# Altium footprint library TPS63060.PcbLib: 1 footprints
Each footprint in its own frame and in the unit in brackets; x right, y up, seen from the top. Pads: shape width x height; smd on the part's side, far side on the other; paste and mask are expansions set on the pad; w line width, h text height; cw(c..) or ccw(c..) is an arc to the next point about the centre after c.
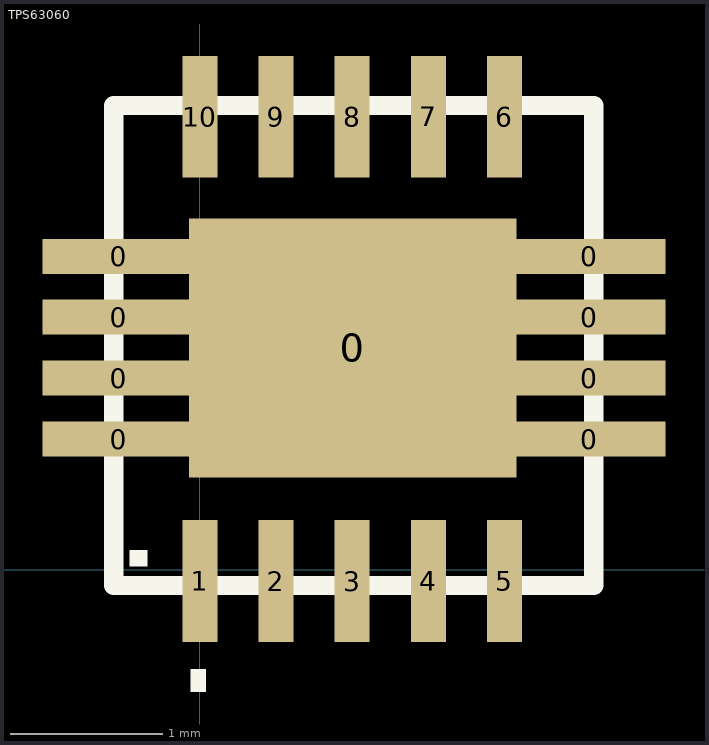
[diagram p0: the footprint, top view; thin cyan lines are the x and y axes]

## TPS63060 [mm]
pads (19):
  rect 1x0.23 smd mask+0.07: 0(-0.533,0.859) 0(-0.533,1.259) 0(-0.533,1.659) 0(-0.533,2.057) 0(2.558,0.859) 0(2.558,1.259) 0(2.558,1.659) 0(2.558,2.057)
  rect 2.15x1.7 smd mask+0.07: 0(1.003,1.458)
  rect 0.23x0.8 smd mask+0.07: 1(0,-0.074) 2(0.5,-0.074) 3(1,-0.074) 4(1.5,-0.074) 5(2,-0.074) 6(2,2.974) 7(1.5,2.974) 8(1,2.974) 9(0.5,2.974) 10(0,2.974)
Top Overlay:
  rectangle: -0.462,0.023 -0.343,0.13
  rectangle: -0.061,-0.803 0.041,-0.65
  lines w0.127: -0.564,-0.102 2.586,-0.102 2.586,3.048 -0.564,3.048 -0.564,-0.102
3D body: height 0.8, standoff 0, extent -0.575,-0.1 2.575,3.05